# Altium schematic symbol library BTM222.SchLib: 1 symbol
Pins are listed as number, name and electrical type; pins without a type are passive.

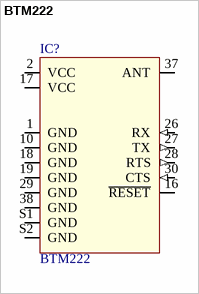
[diagram p0: symbol BTM222]

## BTM222
designator IC?
PDF: http://www.kamami.pl/dl/btm222_datasheet.pdf; ID: BTM222; PRICE: *; BUY_LINK: *
footprint BTM222
pins: 1 GND, 2 VCC, 10 GND, 16 ~{RESET}, 17 VCC, 18 GND, 19 GND, 26 RX (in), 27 TX (out), 28 RTS (out), 29 GND, 30 CTS (in), 37 ANT, 38 GND, S1 GND, S2 GND